# Altium schematic symbol library ThanhNT.SchLib: 223 symbols (part 1 of 3)
Pins are listed as number, name and electrical type; pins without a type are passive.

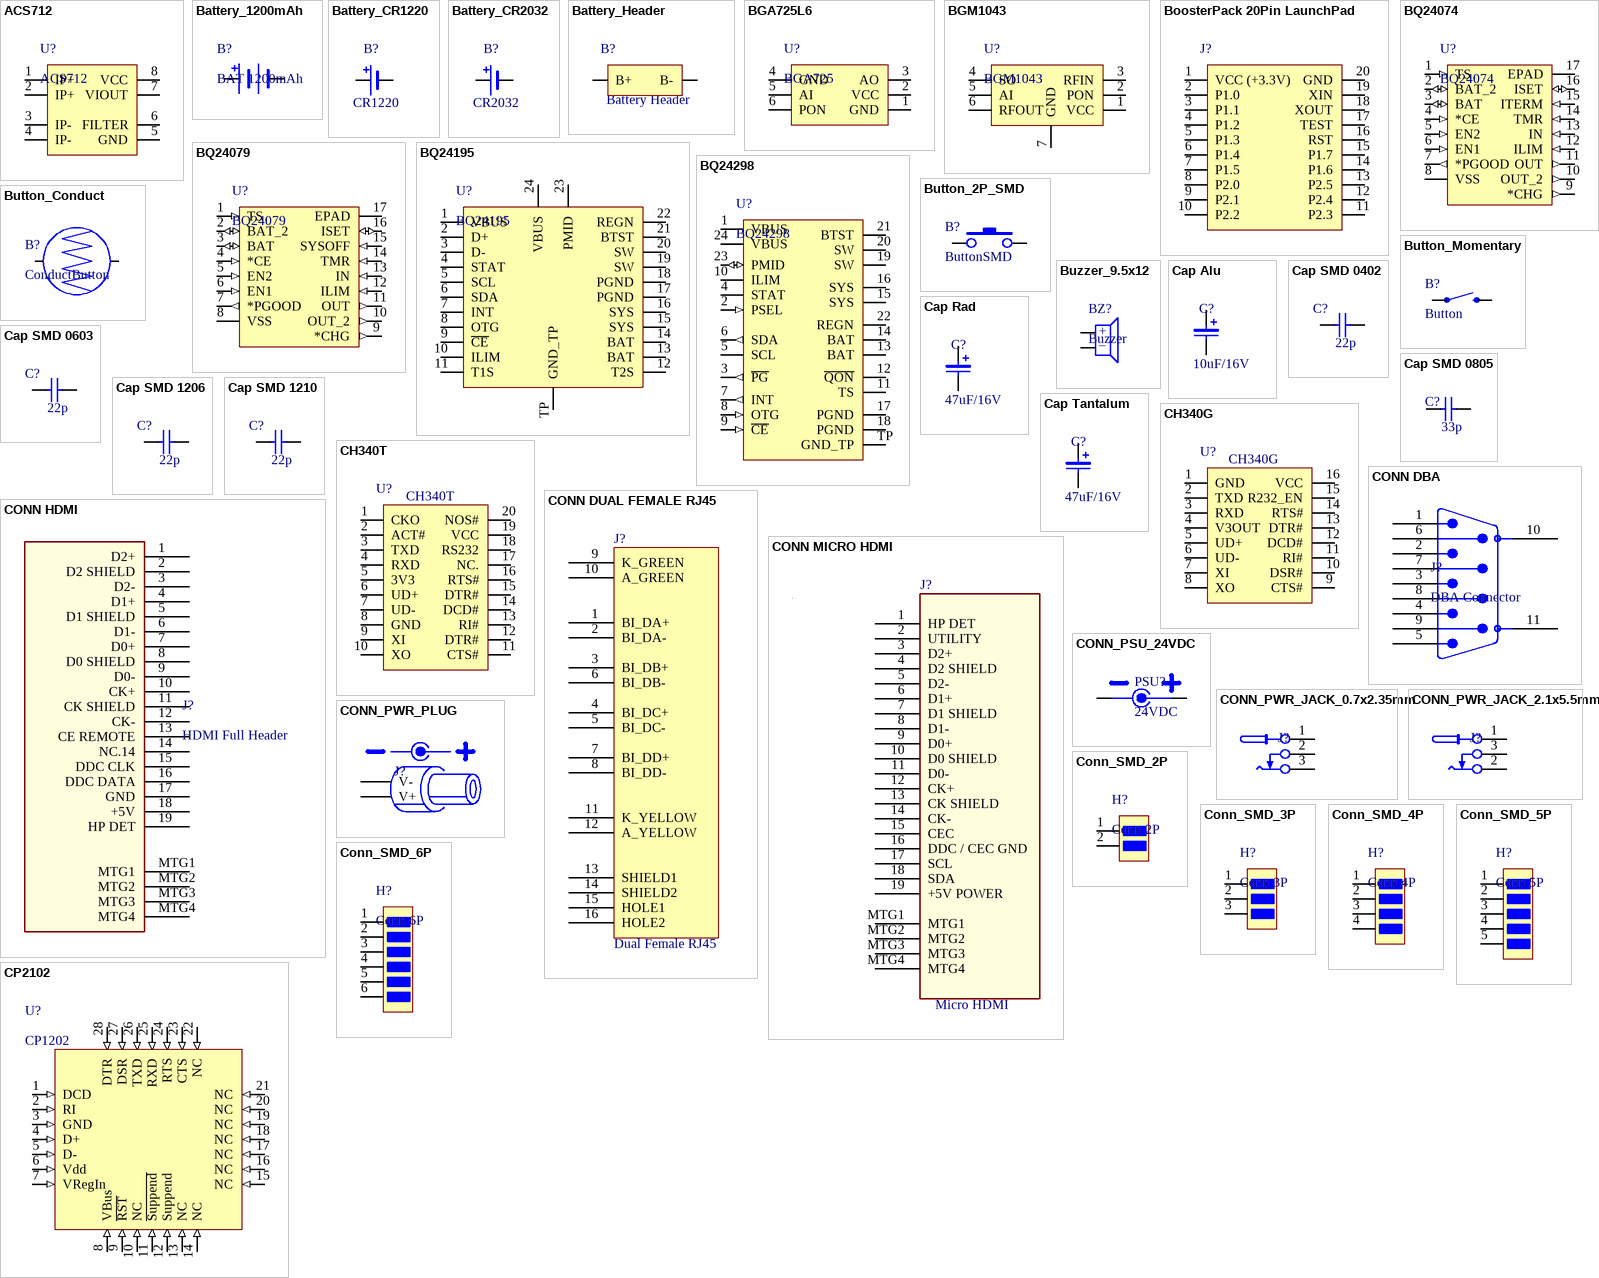
[diagram p0: symbols ACS712 to CP2102]

## ACS712
designator U?
Current Sensor
footprint SOIC127P600X175-8AN (SOIC, 8-Leads, Body 4.9x3.9mm, Pitch 1.27mm, IPC Medium Density)
pins: 1 IP+, 2 IP+, 3 IP-, 4 IP-, 5 GND, 6 FILTER, 7 VIOUT, 8 VCC

## Battery_1200mAh
designator B?, comment BAT 1200mAh
pins: 1, 2

## Battery_CR1220
designator B?, comment CR1220
Value: CR1220
footprint BAT_CR1220_SMD
pins: 1, 2

## Battery_CR2032
designator B?, comment CR2032
Value: CR2032
footprint BAT_CR2032_DIP_H
footprint BAT_CR2032_DIP_V
pins: 1, 2

## Battery_Header
designator B?, comment Battery Header
Value: Battery Header
footprint CONN_PAD_SMD_2P (SMT Battery jumper pads)
pins: 1 B+, 2 B-

## BGA725L6
designator U?, comment BGA725
GPS Signal Amplifier; Manufacturer 1: Infineon Technologies; Manufacturer Part Number 1: BGA 725L6 E6327; Frequency: 1.55GHz ~ 1.615GHz; P1dB: -16dBm; Gain: 20dB; Noise Figure: 0.65dB; RF Type: GPS/GNSS; Voltage - Supply: 1.5 V ~ 3.6 V; Current - Supply: 3.6mA; Description 1: IC AMP MMIC RF LNA 20DB TSLP-6; RoHS: RoHS Compliant; Category: RF/IF and RFID; Packaging: Cut Tape (CT); Part Status: Active; Test Frequency: -; Package / Case: 6-XFDFN; Supplier Device Package: TSLP-6-2; ComponentLink1URL: http://www.infineon.com/dgdl/BGA725L6_V2+0.pdf?folderId=db3a30431f848401011fcbf2ab4c04c4&fileId=db3a30433784a0400137ef9a4d341f23; ComponentLink1Description: http://www.infineon.com/dgdl/BGA725L6_V2+0.pdf?folderId=db3a30431f848401011fcbf2ab4c04c4&fileId=db3a30433784a0400137ef9a4d341f23; Supplier 1: Digi-Key; Stock 1: 25101; Pricing 1: 1=0.89, 10=0.791, 25=0.7144, 100=0.6251, 250=0.54856, 500=0.48478, 1000=0.38273, 5000=0.33935 (USD); Supplier Part Number 1: BGA 725L6 E6327CT-ND
footprint XFDFN-6 (TSLP, 6-Leads, Body 0.7x1.1 mm)
pins: 1 GND, 2 VCC, 3 AO, 4 GND, 5 AI, 6 PON

## BGM1043
designator U?
GPS Signal Amplifier; Manufacturer 1: Infineon Technologies; Manufacturer Part Number 1: BGM1043N7E6327XUSA1; Frequency: 1575.42MHz, 1598.06MHz ~ 1605.38MHz; P1dB: -6dBm; Gain: 14.6dB, 15.1dB; Noise Figure: 1.5dB; RF Type: Galileo, GLONASS, GPS; Voltage - Supply: 1.5 V ~ 3.6 V; Current - Supply: 4mA; Description 1: IC AMP SI-MMIC; RoHS: RoHS Compliant; Category: RF/IF and RFID; Packaging: Cut Tape (CT); Part Status: Last Time Buy; Test Frequency: 1575.42MHz, 1598.06MHz ~ 1605.38MHz; Package / Case: 6-WFDFN Exposed Pad; Supplier Device Package: TSNP-7-10; ComponentLink1URL: http://www.infineon.com/dgdl/bgm1043n7.pdf?folderId=db3a30431f848401011fcbf2ab4c04c4&fileId=db3a304336415dec01365e4465443c72; ComponentLink1Description: http://www.infineon.com/dgdl/bgm1043n7.pdf?folderId=db3a30431f848401011fcbf2ab4c04c4&fileId=db3a304336415dec01365e4465443c72; Supplier 1: Digi-Key; Stock 1: 0; Pricing 1: 1=1.93, 10=1.747, 25=1.56, 100=1.404, 250=1.24804, 500=1.09204, 1000=0.90483 (USD); Supplier Part Number 1: BGM1043N7E6327XUSA1CT-ND
footprint WFDFN-6 (SON, 6-Leads, Body 2.3x1.7mm, Pitch 0.54mm)
pins: 1 VCC, 2 PON, 3 RFIN, 4 SO, 5 AI, 6 RFOUT, 7 GND

## BoosterPack 20Pin LaunchPad
designator J?
footprint BoosterPack_TI_LaunchPad (20PIN_LP)
pins: 1 VCC (+3.3V) (power), 2 P1.0, 3 P1.1, 4 P1.2, 5 P1.3, 6 P1.4, 7 P1.5, 8 P2.0, 9 P2.1, 10 P2.2, 11 P2.3, 12 P2.4, 13 P2.5, 14 P1.6, 15 P1.7, 16 RST, 17 TEST, 18 XOUT, 19 XIN, 20 GND

## BQ24074
designator U?
USB-Friendly Li-Ion Battery Charger and Power-Path Management IC, 10.5V OVP; Manufacturer 1: Texas Instruments; Manufacturer Part Number 1: BQ24074RGTT; Battery Chemistry: Lithium-Ion; Number of Cells: 1; Current - Charging: Constant - Programmable; Programmable Features: Current, Timer; Fault Protection: Over Temperature, Over Voltage, Reverse Current, Short Circuit; Charge Current - Max: 1.5A; Battery Pack Voltage: 4.2V; Voltage - Supply (Max): 10.2V; Interface: USB; Description 1: IC LI-ION BATTER CHARGER 16-QFN; RoHS: RoHS Compliant; Category: Integrated Circuits (ICs); Packaging: Digi-Reel®; Part Status: Active; Operating Temperature: -40°C ~ 125°C (TJ); Package / Case: 16-VFQFN Exposed Pad; Supplier Device Package: 16-QFN (3x3); ComponentLink1URL: http://www.ti.com/lit/ds/symlink/bq24072.pdf; ComponentLink1Description: http://www.ti.com/lit/ds/symlink/bq24072.pdf; Supplier 1: Digi-Key; Stock 1: 9465; Pricing 1: 1=2.68, 10=2.402, 100=1.9272 (USD); ComponentLink2URL: http://www.ti.com/lit/ds/symlink/bq24074.pdf; ComponentLink2Description: http://www.ti.com/lit/ds/symlink/bq24074.pdf; Supplier Part Number 1: 296-23798-1-ND
footprint RGT16_1P7X1P7
pins: 1 TS (in), 2 BAT_2 (io), 3 BAT (io), 4 *CE (in), 5 EN2 (in), 6 EN1 (in), 7 *PGOOD (out), 8 VSS (power), 9 *CHG (out), 10 OUT_2 (out), 11 OUT (out), 12 ILIM (in), 13 IN (in), 14 TMR (in), 15 ITERM (in), 16 ISET (io), 17 EPAD (power)

## BQ24079
designator U?
1.2A USB-Friendly Li-Ion Battery Charger and Power-Path Management IC with 4.1 VBAT; Manufacturer 1: Texas Instruments; Manufacturer Part Number 1: BQ24079RGTR; Description 1: IC LI-ION CHARGE/PWR MGMT 16QFN; Battery Chemistry: Lithium-Ion; Number of Cells: 1; Current - Charging: Constant - Programmable; Programmable Features: Current, Timer; Fault Protection: Over Temperature, Over Voltage, Reverse Current, Short Circuit; Charge Current - Max: 1.5A; Battery Pack Voltage: 4.1V; Voltage - Supply (Max): 6.4V; Interface: USB; Supplier 1: Digi-Key; RoHS: RoHS Compliant; Category: Integrated Circuits (ICs); Stock 1: 3378; Pricing 1: 1=2.33, 10=2.088, 100=1.6754, 500=1.377, 1000=0.95625 (USD); Packaging: Cut Tape (CT); Part Status: Active; Operating Temperature: -40°C ~ 125°C (TJ); Package / Case: 16-VFQFN Exposed Pad; Supplier Device Package: 16-QFN (3x3); ComponentLink1URL: http://www.ti.com/lit/ds/symlink/bq24079.pdf; ComponentLink1Description: http://www.ti.com/lit/ds/symlink/bq24079.pdf; Supplier Part Number 1: 296-24815-1-ND
footprint RGT16_1P7X1P7
pins: 1 TS (in), 2 BAT_2 (io), 3 BAT (io), 4 *CE (in), 5 EN2 (in), 6 EN1 (in), 7 *PGOOD (out), 8 VSS (power), 9 *CHG (out), 10 OUT_2 (out), 11 OUT (out), 12 ILIM (in), 13 IN (in), 14 TMR (in), 15 SYSOFF (in), 16 ISET (io), 17 EPAD (power)

## BQ24195
designator U?
Controlled 2.5-A /4.5-A Single Cell USB/Adapter Charger  with 5.1 V at 1 A /5.1 V at 2.1 A Synchronous Boost Operation; Manufacturer 1: Texas Instruments; Manufacturer Part Number 1: BQ24195RGER; Description 1: IC CHRG MGMT LI-ION/POL 24VQFN; Battery Chemistry: Lithium-Ion/Polymer; Number of Cells: 1; Current - Charging: Constant - Programmable; Fault Protection: Over Current, Over Temperature, Over Voltage; Charge Current - Max: 4.5A; Battery Pack Voltage: 4.2V; Voltage - Supply (Max): 17V; Interface: I²C; Supplier 1: Digi-Key; RoHS: RoHS Compliant; Category: Integrated Circuits (ICs); Stock 1: 2958; Pricing 1: 1=5.53, 10=4.961, 100=4.0703, 500=3.46276, 1000=2.53125 (USD); Packaging: Cut Tape (CT); Part Status: Active; Programmable Features: -; Operating Temperature: -40°C ~ 85°C (TA); Package / Case: 24-VFQFN Exposed Pad; Supplier Device Package: 24-VQFN (4x4); ComponentLink1URL: http://www.ti.com/lit/ds/symlink/bq24195.pdf; ComponentLink1Description: http://www.ti.com/lit/ds/symlink/bq24195.pdf; Supplier Part Number 1: 296-43583-1-ND
footprint QFN50P400X400X80-24N
pins: 1 VBUS, 2 D+, 3 D-, 4 STAT, 5 SCL, 6 SDA, 7 INT, 8 OTG, 9 ~{CE}, 10 ILIM, 11 T1S, 12 T2S, 13 BAT, 14 BAT, 15 SYS, 16 SYS, 17 PGND, 18 PGND, 19 SW, 20 SW, 21 BTST, 22 REGN, 23 PMID, 24 VBUS, TP GND_TP

## BQ24298
designator U?
1.2A USB-Friendly Li-Ion Battery Charger and Power-Path Management IC with 4.1 VBAT; Manufacturer 1: Texas Instruments; Manufacturer Part Number 1: BQ24298RTWT; Description 1: IC BATT CHARGER USB 3A 24VQFN; Battery Chemistry: Lithium-Ion/Polymer; Number of Cells: 1; Current - Charging: Constant - Programmable; Fault Protection: Over Current, Over Temperature, Over Voltage; Charge Current - Max: 3A; Battery Pack Voltage: 4.2V; Voltage - Supply (Max): 6.2V; Interface: I²C; Supplier 1: Digi-Key; RoHS: RoHS Compliant; Category: Integrated Circuits (ICs); Stock 1: 342; Pricing 1: 1=4.95, 10=4.439, 100=3.6421 (USD); Packaging: Cut Tape (CT); Part Status: Active; Programmable Features: -; Operating Temperature: -40°C ~ 85°C (TA); Package / Case: 24-WFQFN Exposed Pad; Supplier Device Package: 24-WQFN (4x4); ComponentLink1URL: http://www.ti.com/lit/ds/symlink/bq24298.pdf; ComponentLink1Description: http://www.ti.com/lit/ds/symlink/bq24298.pdf; Supplier Part Number 1: 296-42099-1-ND
footprint QFN50P400X400X80-24N
pins: 1 VBUS (power), 2 PSEL (in), 3 ~{PG} (out), 4 STAT, 5 SCL (power), 6 SDA (out), 7 INT (out), 8 OTG (in), 9 ~{CE} (in), 10 ILIM, 11 TS, 12 ~{QON} (power), 13 BAT, 14 BAT, 15 SYS, 16 SYS, 17 PGND (power), 18 PGND (power), 19 SW, 20 SW, 21 BTST, 22 REGN, 23 PMID (io), 24 VBUS (power), TP GND_TP (power)

## Button_2P_SMD
designator B?, comment ButtonSMD
footprint TACTILE-SWITCH-1101NE
footprint TACT-SWITCH_2P_SMD
pins: 1, 2

## Button_Conduct
designator B?, comment ConductButton
footprint BUTTON-CONDUCTIVE
footprint BUTTON-CONDUCTIVE-0.1
pins: 1, 2

## Button_Momentary
designator B?, comment Button
footprint TACTILE-PTH
pins: 1, 2

## Buzzer_9.5x12
designator BZ?, comment Buzzer
Buzzer 9.5x12mm
footprint BUZZER_MT03-H1BHP
pins: 1, 2
text: +; _

## Cap Alu
designator C?, comment 10uF/16V
Aluminum Capacitor SMD; Value: 10uF/16V
footprint CAP_ELEC_3 (Aluminum Cap SMD (Code A: 3mm))
footprint CAP_ELEC_4 (Aluminum Cap SMD (Code B: 4mm))
footprint CAP_ELEC_5 (Aluminum Cap SMD (Code C: 5mm))
footprint CAP_ELEC_6.3 (Aluminum Cap SMD (Code D: 6.3mm))
footprint CAP_ELEC_8x6.2 (Aluminum Cap SMD (Code E: 8mm x 6.2mm))
footprint CAP_ELEC_8x10.2 (Aluminum Cap SMD (Code E: 8mm x 10.2mm))
footprint CAP_ELEC_10x10.2 (Aluminum Cap SMD (Code F: 10mm x 10.2mm))
footprint CAP_ELEC_12.5 (Aluminum Cap SMD (Code G: 12.5mm))
footprint CAP_ELEC_16 (Aluminum Cap SMD (Code J: 16mm))
footprint CAP_ELEC_18 (Aluminum Cap SMD (Code K: 18mm))
pins: A, K

## Cap Rad
designator C?, comment 47uF/16V
Radial Capacitor; Value: 47uF/16V
footprint CAP_ELEC_TH_4 (CAP Radial 4mm)
footprint CAP_ELEC_TH_5 (Radial Capacitor (Code B: 5mm))
footprint CAP_ELEC_TH_6.3 (Radial Capacitor (Code C: 6.3mm))
footprint CAP_ELEC_TH_8_11.5 (Radial Capacitor (Code E: 8mm))
footprint CAP_ELEC_TH_8_12 (Radial Capacitor (Code E: 8mm))
footprint CAP_ELEC_TH_8_16 (Radial Capacitor (Code E: 8mm))
footprint CAP_ELEC_TH_10_13.5 (Radial Capacitor (Code F: 10mm))
footprint CAP_ELEC_TH_10_16 (Radial Capacitor (Code F: 10mm))
footprint CAP_ELEC_TH_10_20 (Radial Capacitor (Code F: 10mm))
footprint CAP_ELEC_TH_12.5_20 (CAP Radial 12.5mm)
footprint CAP_ELEC_TH_12.5_25 (CAP Radial 12.5mm)
footprint CAP_ELEC_TH_16 (CAP Radial 16mm)
footprint CAP_ELEC_TH_18_26 (CAP Radial 18mm)
footprint CAP_ELEC_TH_18_36 (CAP Radial 18mm)
footprint CAP_ELEC_TH_SOP2_5 (C10uF)
footprint CAP_ELEC_TH_SOP2_8 (C100uF)
pins: A, K

## Cap SMD 0402
designator C?, comment 22p
Capacitor SMD; Value: 22p
footprint CAPC_0402_1005X55N (Chip Capacitor, Body 1.0x0.5mm, EIA 0402, IPC Medium Density)
pins: 1, 2

## Cap SMD 0603
designator C?, comment 22p
Capacitor SMD; Value: 22p
footprint CAPC_0603_1608X80N (Chip Capacitor, Body 1.6x0.8mm, EIA 0603, IPC Medium Density)
pins: 1, 2

## Cap SMD 0805
designator C?, comment 33p
Capacitor SMD; Published: 8-Jun-2000; LatestRevisionDate: 17-Jul-2002; LatestRevisionNote: Re-released for DXP Platform.; PackageReference: RAD-0.3; Publisher: Altium Limited; Value: 33p
footprint CAPC_0805_2012X80N (Chip Capacitor, Body 2.0x1.2mm, EIA 0805, IPC Medium Density)
footprint CAPC_0805_2012X125N (Chip Capacitor, Body 2.0x1.2mm, EIA 0805, IPC Medium Density)
pins: 1, 2

## Cap SMD 1206
designator C?, comment 22p
Capacitor SMD; Value: 22p
footprint CAPC_1206_3216X80N (Chip Capacitor, Body 3.2x1.6mm, 0.8mm H, EIA 1206, IPC Medium Density)
footprint CAPC_1206_3216X100N (Chip Capacitor, Body 3.2x1.6mm, 1.0mm H, EIA 1206, IPC Medium Density)
footprint CAPC_1206_3216X125N (Chip Capacitor, Body 3.2x1.6mm, 1.25mm H, EIA 1206, IPC Medium Density)
footprint CAPC_1206_3216X160N (Chip Capacitor, Body 3.2x1.6mm, 1.6mm H, EIA 1206, IPC Medium Density)
pins: 1, 2

## Cap SMD 1210
designator C?, comment 22p
Capacitor SMD; Value: 22p
footprint CAPC_1210_3225X80N (Chip Capacitor, Body 3.2x2.5mm, EIA 1210, IPC Medium Density)
footprint CAPC_1210_3225X100N (Chip Capacitor, Body 3.2x2.5mm, EIA 1210, IPC Medium Density)
footprint CAPC_1210_3225X125N (Chip Capacitor, Body 3.2x2.5mm, EIA 1210, IPC Medium Density)
footprint CAPC_1210_3225X160N (Chip Capacitor, Body 3.2x2.5mm, EIA 1210, IPC Medium Density)
footprint CAPC_1210_3225X210N (Chip Capacitor, Body 3.2x2.5mm, EIA 1210, IPC Medium Density)
footprint CAPC_1210_3225X190N (Chip Capacitor, Body 3.2x2.5mm, EIA 1210, IPC Medium Density)
footprint CAPC_1210_3225X250N (Chip Capacitor, Body 3.2x2.5mm, EIA 1210, IPC Medium Density)
pins: 1, 2

## Cap Tantalum
designator C?, comment 47uF/16V
Tantalium Capacitor; Value: 47uF/16V
footprint CAPMP_2012_CASE_P (Tatalum Capacitor SMD (2012_0805), Molded body capacitor)
footprint CAPMP_2012_CASE_R (Tatalum Capacitor SMD (2012_0805), Molded body capacitor)
footprint CAPMP_3216_CASE_A (Tatalum Capacitor SMD (3216_1206), Molded body capacitor)
footprint CAPMP_3528_CASE_B (Tatalum Capacitor SMD (3528_1411), Molded body capacitor)
footprint CAPMP_5846_CASE_D1 (Tatalum Capacitor SMD (5846_2318), Molded body capacitor)
footprint CAPMP_6032_CASE_C (Tatalum Capacitor SMD (6032_2412), Molded body capacitor)
footprint CAPMP_7260_CASE_E (Tatalum Capacitor SMD (7260_2824), Molded body capacitor)
footprint CAPMP_7343_CASE_D (Tatalum Capacitor SMD (7343_2916), Molded body capacitor)
pins: A, K

## CH340G
designator U?
CH340G (USB - UART); Part_Name: CH340G
footprint SOIC127P600X175-16AN (SOIC, 1.27mm pitch, 16 pin, Body 9.9x3.90mm)
pins: 1 GND, 2 TXD, 3 RXD, 4 V3OUT, 5 UD+, 6 UD-, 7 XI, 8 XO, 9 CTS#, 10 DSR#, 11 RI#, 12 DCD#, 13 DTR#, 14 RTS#, 15 R232_EN, 16 VCC

## CH340T
designator U?
CH340T (USB-UART); Part_Name: CH340T
footprint SSOP-20N-P7200 (SOP, 20-Leads, Body 7.20x5.50mm, Pitch 0.65mm, IPC Medium Density)
pins: 1 CKO, 2 ACT#, 3 TXD, 4 RXD, 5 3V3, 6 UD+, 7 UD-, 8 GND, 9 XI, 10 XO, 11 CTS#, 12 DTR#, 13 RI#, 14 DCD#, 15 DTR#, 16 RTS#, 17 NC., 18 RS232, 19 VCC, 20 NOS#

## CONN DBA
designator J?, comment DBA Connector
CONN D-SUB PLUG R/A 9POS GOLD/FL
footprint DBA9_MALE_RA
pins: 1, 2, 3, 4, 5, 6 14, 7 15, 8 16, 9 17, 10 SHIELD, 11 SHIELD

## CONN DUAL FEMALE RJ45
designator J?, comment Dual Female RJ45
CONN MOD JACK 8POS R/A G-Y PCB; Manufacturer: Tyco; Manufacturer Part Number: 2-406549-1; .Checked PCB: used; Number of Positions: 8p8c (RJ45, Ethernet); Value: 2-406549-1; Number of Ports: 1; Shielding: Shielded, EMI Finger; Ratings: Cat5; LED Color: Yellow - Green; Tab Direction: Up; .Checked SCH: used; Category: Connectors, Interconnects; Connector Type: Jack; Price 1k [$]: 1.73278; Supplier: Digikey; Supplier Part Number: A97715-ND; Supplier 1: Digi-Key; Supplier Part Number 1: A97715-ND; RoHS: RoHS Compliant; Stock 1: 9021; Pricing 1: 1=3.42 (USD); Number of Positions/Contacts: 8p8c (RJ45, Ethernet); Number of Rows: 1; Mounting Type: Through Hole; Orientation: 90° Angle (Right); Termination: Solder; Features: Board Lock; Packaging: Tray; Housing Material: Thermoplastic; Contact Material: Phosphor Bronze; Contact Finish: Gold; Operating Temperature: -40°C ~ 85°C; ComponentLink1URL: http://documents.tycoelectronics.com/commerce/DocumentDelivery/DDEController?Action=srchrtrv&DocNm=406549&DocType=CD&DocLang=EN; ComponentLink1Description: http://documents.tycoelectronics.com/commerce/DocumentDelivery/DDEController?Action=srchrtrv&DocNm=406549&DocType=CD&DocLang=EN
footprint RJ45_LED_2
pins: 1 BI_DA+, 2 BI_DA-, 3 BI_DB+, 4 BI_DC+, 5 BI_DC-, 6 BI_DB-, 7 BI_DD+, 8 BI_DD-, 9 K_GREEN, 10 A_GREEN, 11 K_YELLOW, 12 A_YELLOW, 13 SHIELD1, 14 SHIELD2, 15 HOLE1, 16 HOLE2

## CONN HDMI
designator J?, comment HDMI Full Header
footprint CONN_HDMI
pins: 1 D2+, 2 D2 SHIELD, 3 D2-, 4 D1+, 5 D1 SHIELD, 6 D1-, 7 D0+, 8 D0 SHIELD, 9 D0-, 10 CK+, 11 CK SHIELD, 12 CK-, 13 CE REMOTE, 14 NC.14, 15 DDC CLK, 16 DDC DATA, 17 GND, 18 +5V, 19 HP DET, MTG1, MTG2, MTG3, MTG4

## CONN MICRO HDMI
designator J?, comment Micro HDMI
CONN RCPT HDMI MICRO TYPE-D R/A; Manufacturer: Molex Inc; Manufacturer Part Number: 0467651001; Connector Type: HDMI - Micro; Number of Contacts: 19; Gender: Receptacle; .Creator: MM; .Checked PCB: MM, paper model not checked; Supplier 1: Digi-Key; RoHS: RoHS Compliant; Category: Connectors, Interconnects; Stock 1: 11830; Pricing 1: 1=2.66, 10=2.414, 25=2.2664, 50=2.1678, 100=2.0693, 250=1.87224, 500=1.72442 (USD); Packaging: Cut Tape (CT); Specifications: -; Mounting Type: Surface Mount, Right Angle, Horizontal; Features: Board Guide; Ingress Protection: -; ComponentLink1URL: http://www.molex.com/pdm_docs/sd/467651001_sd.pdf; ComponentLink1Description: http://www.molex.com/pdm_docs/sd/467651001_sd.pdf; Supplier Part Number 1: WM1282CT-ND; .Checked SCH: MM
footprint CONN_MICRO_HDMI
pins: 1 HP DET, 2 UTILITY, 3 D2+, 4 D2 SHIELD, 5 D2-, 6 D1+, 7 D1 SHIELD, 8 D1-, 9 D0+, 10 D0 SHIELD, 11 D0-, 12 CK+, 13 CK SHIELD, 14 CK-, 15 CEC, 16 DDC / CEC GND, 17 SCL, 18 SDA, 19 +5V POWER, MTG1, MTG2, MTG3, MTG4

## CONN_PSU_24VDC
designator PSU?, comment 24VDC
Power Supply 24VDC 2.5A
pins: 1, 2

## CONN_PWR_JACK_0.7x2.35mm
designator J?  (value not drawn)
footprint CONN_PWR_JACK_0.7x2.35mm (Power Connector, 0.7mm ID, 2.35mm OD)
pins: 1 POS, 2 NC, 3 NEG

## CONN_PWR_JACK_2.1x5.5mm
designator J?  (value not drawn)
footprint CONN_PWR_JACK_2.1x5.5mm (Power Connector, 2.1mm ID, 5.5mm OD)
footprint CONN_PWR_JACK_2.1x5.5mm_2 (Jac DC input)
pins: 1, 2, 3

## CONN_PWR_PLUG
designator J?  (value not drawn)
footprint CONN_PAD_SMD_2P (SMT Battery jumper pads)
pins: 1 V-, 2 V+

## Conn_SMD_2P
designator H?, comment Conn 2P
footprint CONN_PAD_SMD_2P (SMT Battery jumper pads)
pins: 1 In_1, 2 In_2

## Conn_SMD_3P
designator H?, comment Conn 3P
footprint CONN_PAD_SMD_3P (SMT Battery jumper pads)
pins: 1 In_1, 2 In_2, 3 In_3

## Conn_SMD_4P
designator H?, comment Conn 4P
footprint CONN_PAD_SMD_4P (SMT Battery jumper pads)
pins: 1 In_1, 2 In_2, 3 In_3, 4 In_4

## Conn_SMD_5P
designator H?, comment Conn 5P
footprint CONN_PAD_SMD_5P (SMT Battery jumper pads)
pins: 1 In_1, 2 In_2, 3 In_3, 4 In_4, 5 In_5

## Conn_SMD_6P
designator H?, comment Conn 6P
footprint CONN_PAD_SMD_6P (SMT Battery jumper pads)
pins: 1 In_1, 2 In_2, 3 In_3, 4 In_4, 5 In_5, 6 In_6

## CP2102
designator U?, comment CP1202
footprint QFN50P500X500X80-29N (QFN, 28-Leads, Body 5.00x5.00mm, Pitch 0.50mm, Thermal Pad 3.15x3.15mm, IPC Medium Density)
pins: 1 DCD (in), 2 RI (in), 3 GND (in), 4 D+ (in), 5 D- (in), 6 Vdd (in), 7 VRegIn (in), 8 VBus (in), 9 ~{RST} (in), 10 NC (in), 11 ~{Suppend} (in), 12 Suppend (in), 13 NC (in), 14 NC (in), 15 NC (in), 16 NC (in), 17 NC (in), 18 NC (in), 19 NC (in), 20 NC (in), 21 NC (in), 22 NC (in), 23 CTS (in), 24 RTS (in), 25 RXD (in), 26 TXD (in), 27 DSR (in), 28 DTR (in)

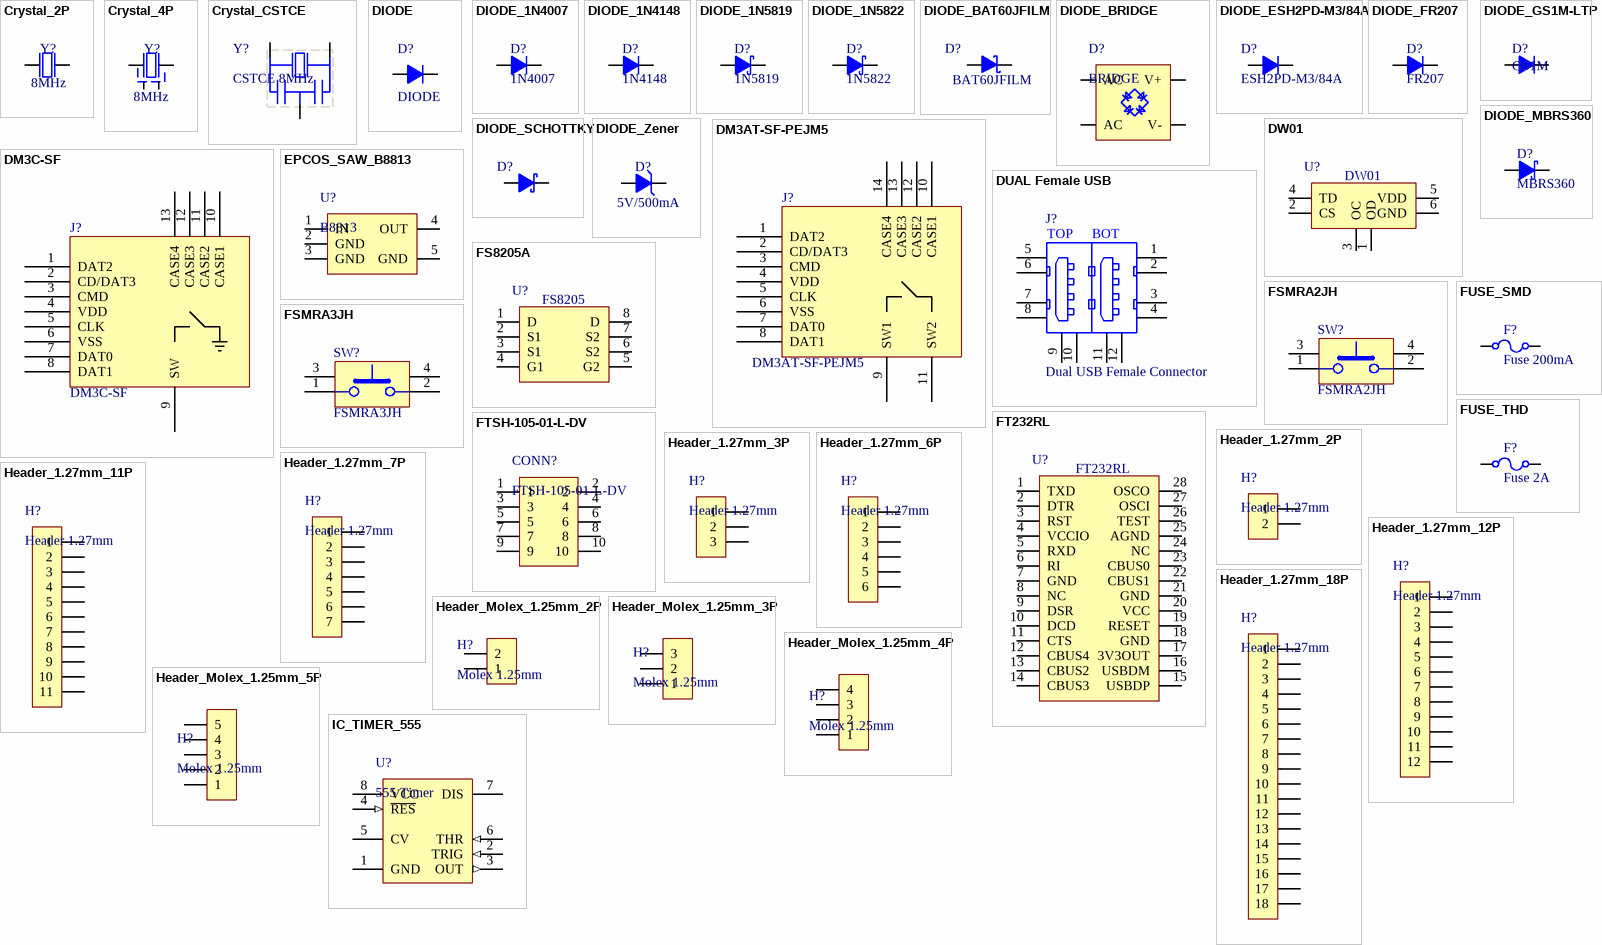
[diagram p1: symbols Crystal_2P to IC_TIMER_555]

## Crystal_2P
designator Y?, comment 8MHz
Value: 8MHz
footprint Crystal_2HOLE_49U (Footpin for Crystal 2 pin)
footprint CRYSTAL_2HOLE_SMALL (Connector; Header; 2 Position)
footprint CRYSTAL_2Hole_SMD_49US
footprint CRYSTAL_CMR309T_3x8 (SMD Crystal CMR309T package (3x8mm))
footprint CRYSTAL_HC49-US-SM (SMD Crystal HC49/US-SM package)
footprint CRYSTAL_SMD5032_2P
footprint CRYSTAL_SMD6235_2P
footprint CRYSTAL_SMD_2P
footprint CRYSTAL_CMR200T_2x6 (SMD Crystal CMR200T package (2x6mm))
footprint CRYSTAL_FC135_3215 (3.20mm x 1.50mm)
pins: 1, 2

## Crystal_4P
designator Y?, comment 8MHz
Value: 8MHz
footprint CRYSTAL_4-LCC (SMD Crystal 4-lead leadless package)
footprint CRYSTAL_NX2520SA (SMD Crystal 4-lead leadless package)
footprint CRYSTAL_SMD5032_4P
footprint CRYSTAL_SMD6035_4P
footprint CRYSTAL_ABM3B
pins: 1, 2, 3, 4

## Crystal_CSTCE
designator Y?, comment CSTCE 8MHz
(T) Crystal MHz with Capacitance Built-in
footprint CRYSTAL_CSTCE_V_3213
footprint CRYSTAL_CSTCE_G_4520
pins: 1, 2, 3

## DIODE
designator D?
footprint DO-41-30 (Diode, thru-hole, 300mil)
footprint DO-41-40 (Diode, thru-hole, 400mil)
footprint DO-41-50 (Diode, thru-hole, 500mil)
footprint DO-15-60 (Diode, thru-hole, 600mil)
footprint DO-15-50 (Diode, thru-hole, 500mil)
footprint DO-15-70 (Diode, thru-hole, 700mil)
pins: A, K

## DIODE_1N4007
designator D?, comment 1N4007
Diode 1000V, 1A
footprint DO-41-30 (Diode, thru-hole, 300mil)
footprint DO-214AC (JEDEC DO214 variation AC. SMA)
pins: A, K

## DIODE_1N4148
designator D?, comment 1N4148
100V 4nS 450mA
footprint SOD523F (SOD-523F; 2 Leads; Body 1.3 x 0.9 mm, (LxW))
footprint SOD323 (SOD-323; 2 Leads; Body 1.8 x 1.35 mm, (LxW))
footprint SOD80, LL-34 (Diode, MiniMELF)
footprint SOD80_HAND (Diod SMD 1206)
footprint DO-35-20 (DO-35 Glass 4mils, 200mil)
pins: A, K

## DIODE_1N5819
designator D?, comment 1N5819
1A 40V SS14
footprint DO-214AC (JEDEC DO214 variation AC. SMA)
pins: A, K

## DIODE_1N5822
designator D?, comment 1N5822
3A 40V SS34
footprint DO-214AC (JEDEC DO214 variation AC. SMA)
pins: A, K

## DIODE_BAT60JFILM
designator D?, comment BAT60JFILM
Manufacturer 1: STMicroelectronics; Description 1: DIODE SCHOTTKY 10V 3A SOD323; Diode Type: Schottky; Voltage - DC Reverse (Vr) (Max): 10V; Current - Average Rectified (Io): 3A (DC); Voltage - Forward (Vf) (Max) @ If: 580mV @ 1A; Speed: Fast Recovery =< 500ns, > 200mA (Io); Current - Reverse Leakage @ Vr: 6µA @ 10V; Supplier 1: Digi-Key; Manufacturer Part Number 1: BAT60JFILM; RoHS: RoHS Compliant; Category: Discrete Semiconductor Products; Stock 1: 0; Pricing 1: 1=0.41, 10=0.305, 100=0.1724, 500=0.11434, 1000=0.08769 (USD); Packaging: Cut Tape (CT); Part Status: Active; Reverse Recovery Time (trr): -; Capacitance @ Vr, F: -; Mounting Type: Surface Mount; Package / Case: SC-76, SOD-323; Supplier Device Package: SOD-323; Operating Temperature - Junction: 150°C (Max); ComponentLink1URL: http://www.st.com/web/en/resource/technical/document/datasheet/CD00001944.pdf; ComponentLink1Description: http://www.st.com/web/en/resource/technical/document/datasheet/CD00001944.pdf; Supplier Part Number 1: 497-3707-1-ND; Value: BAT60JFILM
footprint SOD323 (SOD-323; 2 Leads; Body 1.8 x 1.35 mm, (LxW))
pins: A 1, K 2

## DIODE_BRIDGE
designator D?, comment BRIDGE
footprint WOB (Bridge Rectifier; 4 Terminals; Body 9.4 x 9.4 mm (typ); Pitch 5.08 mm)
footprint WOG (Bridge Rectifier; 4 Terminals; Body 9.4 x 9.4 mm (typ); Pitch 5.08 mm)
footprint GBU
footprint KBL (BRIDGE RECTIFIERS)
footprint KBP (BRIDGE RECTIFIERS)
footprint KBU (BRIDGE RECTIFIERS)
footprint DB-S (Bridge Diode Rectron (DB101s-107s))
pins: 1 V+, 2 AC, 3 AC, 4 V-

## DIODE_ESH2PD-M3/84A
designator D?, comment ESH2PD-M3/84A
Diode Standard 200V 2A Surface Mount DO-220AA (SMP); Manufacturer 1: Vishay Semiconductor Diodes Division; Description 1: DIODE GEN PURP 200V 2A DO220AA; Voltage - Forward (Vf) (Max) @ If: 980mV @ 2A; Speed: Fast Recovery =< 500ns, > 200mA (Io); Reverse Recovery Time (trr): 25ns; Current - Reverse Leakage @ Vr: 1µA @ 200V; Capacitance @ Vr, F: 25pF @ 4V, 1MHz; Supplier 1: Digi-Key; Manufacturer Part Number 1: ESH2PD-M3/84A; RoHS: RoHS Compliant; Category: Discrete Semiconductor Products; Stock 1: 3337; Pricing 1: 1=0.46, 10=0.394, 25=0.3672, 100=0.2939, 250=0.27288, 500=0.23092, 1000=0.17843 (USD); Packaging: Cut Tape (CT); Part Status: Active; Diode Type: Standard; Voltage - DC Reverse (Vr) (Max): 200V; Current - Average Rectified (Io): 2A; Mounting Type: Surface Mount; Package / Case: DO-220AA; Supplier Device Package: DO-220AA (SMP); Operating Temperature - Junction: -55°C ~ 175°C; ComponentLink1URL: http://www.vishay.com/docs/89016/esh2pb.pdf; ComponentLink1Description: http://www.vishay.com/docs/89016/esh2pb.pdf; Supplier Part Number 1: ESH2PD-M3/84AGICT-ND
footprint DO-220AA
pins: A, K

## DIODE_FR207
designator D?, comment FR207
Standard Power Diode, Single, 1 kV, 2 A, 1.2 V, 60 A, 150 °C
footprint DO-214AA (JEDEC DO214 variation AA. SMB)
pins: A, K

## DIODE_GS1M-LTP
designator D?, comment GS1M
Rectifiers 1000V,1A; Manufacturer: Micro Commercial Components (MCC); Manufacturer Part Number: GS1M-LTP; Manufacturer 1: Micro Commercial Co; Max Surge Current: 30 A; Reverse Current IR: 10 uA; Description 1: DIODE GEN PURP 1KV 1A DO214AC; Diode Type: Standard; Voltage - DC Reverse (Vr) (Max): 1000V (1kV); Voltage - Forward (Vf) (Max) @ If: 1V @ 1A; Speed: Standard Recovery >500ns, > 200mA (Io); Current - Reverse Leakage @ Vr: 10µA @ 1000V; Capacitance @ Vr, F: 15pF @ 4V, 1MHz; RoHS: RoHS Compliant; Category: Rectifiers; Package/Case: DO-214AC; Packaging: Reel; Product: Standard Recovery Rectifiers; Series: GS1M; Forward Continuous Current: 1 A; Mounting Style: SMD/SMT; Reverse Voltage: 1000 V; Maximum Operating Temperature: + 150 C; RoHS - Mouser: Y; Minimum Order Quantity: 1; Reeling: True; ComponentLink1URL: http://www.mouser.com/ds/2/258/GS1A-GS1M(HSMA)-8668.pdf; ComponentLink1Description: http://www.mouser.com/ds/2/258/GS1A-GS1M(HSMA)-8668.pdf; Supplier 1: Digi-Key; Manufacturer Part Number 1: GS1M-LTP; Stock 1: 24078; Pricing 1: 1=0.28, 10=0.258, 25=0.1856, 100=0.1442, 250=0.09064, 500=0.07726, 1000=0.05253, 2500=0.04738 (USD); Part Status: Active; Current - Average Rectified (Io): 1A; Reverse Recovery Time (trr): -; Mounting Type: Surface Mount; Package / Case: DO-214AC, SMA; Supplier Device Package: DO-214AC (SMA); Operating Temperature - Junction: -55°C ~ 150°C; ComponentLink2URL: http://www.mccsemi.com/up_pdf/GS1A-L~GS1M-L(DO-214AC).pdf; ComponentLink2Description: http://www.mccsemi.com/up_pdf/GS1A-L~GS1M-L(DO-214AC).pdf; Supplier Part Number 1: GS1M-LTPMSDKR-ND
footprint DO-214AC (JEDEC DO214 variation AC. SMA)
pins: A, K

## DIODE_MBRS360
designator D?, comment MBRS360
3A SMB; Manufacturer 1: ON Semiconductor; Manufacturer Part Number 1: MBRS360BT3G; Description 1: DIODE SCHOTTKY 60V 3A SMB; Diode Type: Schottky; Voltage - DC Reverse (Vr) (Max): 60V; Voltage - Forward (Vf) (Max) @ If: 630mV @ 3A; Speed: Fast Recovery =< 500ns, > 200mA (Io); Current - Reverse Leakage @ Vr: 30µA @ 60V; Supplier 1: Digi-Key; RoHS: RoHS Compliant; Category: Discrete Semiconductor Products; Stock 1: 18750; Pricing 1: 1=0.41, 10=0.35, 100=0.2613, 500=0.2052, 1000=0.1582 (USD); Packaging: Cut Tape (CT); Part Status: Active; Current - Average Rectified (Io): 3A; Reverse Recovery Time (trr): -; Capacitance @ Vr, F: -; Mounting Type: Surface Mount; Package / Case: DO-214AA, SMB; Supplier Device Package: SMB; Operating Temperature - Junction: -65°C ~ 175°C; ComponentLink1URL: http://www.onsemi.com/pub_link/Collateral/MBRS360T3-D.PDF; ComponentLink1Description: http://www.onsemi.com/pub_link/Collateral/MBRS360T3-D.PDF; Supplier Part Number 1: MBRS360BT3GOSCT-ND
footprint DO-214AA (JEDEC DO214 variation AA. SMB)
pins: A, K

## DIODE_SCHOTTKY
designator D?, comment SS34  (value not drawn)
Diode Schottky SMD 100V 3A SMC
footprint DO-214AA (JEDEC DO214 variation AA. SMB)
footprint DO-214AB (JEDEC DO214 variation AB. SMC)
footprint DO-214AC (JEDEC DO214 variation AC. SMA)
pins: A, K

## DIODE_Zener
designator D?, comment 5V/500mA
Value: 5V/500mA
footprint DO-214AA (JEDEC DO214 variation AA. SMB)
pins: A, K

## DM3AT-SF-PEJM5
designator J?
CONN MICRO SD R/A PUSH-PUSH SMD; Manufacturer: Hirose Electric Co Ltd; .Checked PCB: MM; Connector Type: Connector and Ejector; Card Type: Secure Digital - microSD TransFlash; Number of Positions: 10 (8 + 2); Insertion, Removal Method: Push In, Push Out; .Checked SCH: MM; Category: Connectors, Interconnects; Supplier Part Number: HR1964CT-ND; Family: Memory - PC Card Connectors; Manufacturer Part Number: DM3AT-SF-PEJM5; Price 1k [$]: 1.85200; Supplier: Digikey; Supplier 1: Digi-Key; Supplier Part Number 1: HR1964CT-ND; RoHS: RoHS Compliant; Stock 1: 7044; Pricing 1: 1=2.96, 10=2.457, 50=2.0476, 100=1.82, 250=1.5106, 500=1.365 (USD); Ejector Side: -; Mounting Type: Surface Mount, Right Angle; Features: Switch; Height Above Board: 0.066" (1.68mm); Mounting Feature: Normal, Standard - Top; Packaging: Cut Tape (CT); Contact Finish: Gold; Contact Finish Thickness: -; ComponentLink1URL: http://www.hirose.co.jp/cataloge_hp/e60900232.pdf; ComponentLink1Description: http://www.hirose.co.jp/cataloge_hp/e60900232.pdf
footprint CONN_MICRO_SD_DM3AT
pins: 1 DAT2, 2 CD/DAT3, 3 CMD, 4 VDD, 5 CLK, 6 VSS, 7 DAT0, 8 DAT1, 9 SW1, 10 CASE1, 11 SW2, 12 CASE2, 13 CASE3, 14 CASE4

## DM3C-SF
designator J?
CONN MICRO SD R/A HING TYPE SMD; Manufacturer: Hirose Electric Co Ltd; Card Type: Secure Digital - microSD™; Number of Positions: 10 (8 + 2); Connector Type: Connector and Ejector; Insertion, Removal Method: Hinged Lid; .Creator: MM; Supplier 1: Digi-Key; Manufacturer Part Number: DM3C-SF; RoHS: RoHS Compliant; Category: Connectors, Interconnects; Stock 1: 87; Pricing 1: 1=2.36, 10=1.96, 25=1.8152, 50=1.6368, 100=1.452, 250=1.2738, 500=1.1616 (USD); Packaging: Cut Tape (CT); Ejector Side: -; Mounting Type: Surface Mount, Right Angle; Features: Switch; Height Above Board: 0.072" (1.83mm); Mounting Feature: Normal, Standard - Top; Contact Finish: Gold; Contact Finish Thickness: -; ComponentLink1URL: http://www.hirose.co.jp/cataloge_hp/e60900232.pdf; ComponentLink1Description: http://www.hirose.co.jp/cataloge_hp/e60900232.pdf; Supplier Part Number 1: HR1940CT-ND; .Checked PCB: MM; .Checked SCH: MM
footprint CONN_MICRO_SD_DM3CS
pins: 1 DAT2, 2 CD/DAT3, 3 CMD, 4 VDD, 5 CLK, 6 VSS, 7 DAT0, 8 DAT1, 9 SW, 10 CASE1, 11 CASE2, 12 CASE3, 13 CASE4

## DUAL Female USB
designator J?, comment Dual USB Female Connector
CONN RCPT R/A 4OVER4POS GOLD PCB; Manufacturer: TE Connectivity; Manufacturer Part Number: 5787617-1; .Checked PCB: used; Connector Type: USB - A, Stacked; Value: 5787617-1; Number of Contacts: 8; Gender: Receptacle; Specifications: USB 2.0; .Checked SCH: used; Category: Connectors, Interconnects; Family: USB, IEEE-1394 (Firewire), DVI, HDMI; Price 1k [$]: 1.68753; Supplier: Digikey; Supplier Part Number: A31728-ND; Supplier 1: Digi-Key; Supplier Part Number 1: A31728-ND; RoHS: RoHS Compliant; Stock 1: 5401; Pricing 1: 1=3.33, 10=3.197, 25=2.9308, 50=2.7978, 100=2.6645, 250=2.33144, 500=2.26484, 1000=1.93178, 2500=1.79855 (USD); Mounting Type: Through Hole, Right Angle, Horizontal; Features: Board Lock; Packaging: Tray; Ingress Protection: -; ComponentLink1URL: http://documents.tycoelectronics.com/commerce/DocumentDelivery/DDEController?Action=srchrtrv&DocNm=5787617&DocType=CD&DocLang=EN; ComponentLink1Description: http://documents.tycoelectronics.com/commerce/DocumentDelivery/DDEController?Action=srchrtrv&DocNm=5787617&DocType=CD&DocLang=EN
footprint CONN_USB-2A_FEMALE
pins: 1 VBUS, 2 D-, 3 D+, 4 GND, 5 VBUS2, 6 D2-, 7 D2+, 8 GND, 9 SHIELD, 10 SHIELD, 11 SHIELD, 12 SHIELD
text: TOP; BOT

## DW01
designator U?
Part_Name: DW01
footprint TSOT23-6 (SOT-23-6 Thin, 6 lead)
pins: 1 OD, 2 CS, 3 OC, 4 TD, 5 VDD, 6 GND

## EPCOS_SAW_B8813
designator U?, comment B8813
FILTER SAW GPS
footprint EPCOS_SAW_B8813
pins: 1 IN, 2 GND, 3 GND, 4 OUT, 5 GND

## FS8205A
designator U?, comment FS8205
PartName: FS8205
footprint TSSOP65P640X120-8N (TSSOP, 8 Leads, Body 3.1x4.5mm (max), Pitch 0.65mm, IPC Medium Density)
pins: 1 D, 2 S1, 3 S1, 4 G1, 5 G2, 6 S2, 7 S2, 8 D

## FSMRA2JH
designator SW?
SWITCH TACTILE SPST-NO 0.05A 12V; Manufacturer: TE Connectivity; Switch Function: Off-Mom; Contact Rating @ Voltage: 0.05A @ 12VDC; Actuator Type: Standard; Actuator Height off PCB, from Pins: 3.86mm; Actuator Orientation: Side Actuated; Outline: 7.10mm x 7.00mm; Illumination: Non-Illuminated; Operating Force: 160gf; Actuator Material: Polybutylene Terephthalate (PBT); Switch Travel: 0.25mm; Mechanical Life: 100,000 Cycles; .Creator: MM; Supplier 1: Digi-Key; Manufacturer Part Number: FSMRA2JH; RoHS: RoHS Compliant; Category: Switches; Stock 1: 12215; Pricing 1: 1=0.16, 10=0.151, 25=0.146, 50=0.141, 100=0.1331, 250=0.12528, 500=0.12006, 1000=0.09135 (USD); Packaging: Bulk; Circuit: SPST-NO; Mounting Type: Through Hole, Right Angle; Termination Style: PC Pin; Illumination Voltage (Nominal): -; Illumination Type, Color: -; Ingress Protection: -; Features: -; Operating Temperature: -35°C ~ 85°C; ComponentLink1URL: http://media.digikey.com/pdf/Data%20Sheets/Tyco%20Electronics%20Alcoswitch%20PDFs/FSM%20Series.pdf; ComponentLink1Description: http://media.digikey.com/pdf/Data%20Sheets/Tyco%20Electronics%20Alcoswitch%20PDFs/FSM%20Series.pdf; Supplier Part Number 1: 450-1662-ND; .Checked PCB: MM; .Checked SCH: MM
footprint TS_FSMRA2JH
pins: 1, 2, 3 MECH1, 4 MECH2

## FSMRA3JH
designator SW?
SWITCH TACTILE SPST-NO 0.05A 12V; Manufacturer: TE Connectivity; Switch Function: Off-Mom; Contact Rating @ Voltage: 0.05A @ 12VDC; Actuator Type: Standard; Actuator Height off PCB, from Pins: 5.85mm; Actuator Orientation: Side Actuated; Outline: 7.10mm x 7.00mm; Illumination: Non-Illuminated; Operating Force: 160gf; Actuator Material: Polyamide (PA), Nylon; Switch Travel: 0.25mm; Mechanical Life: 100,000 Cycles; .Creator: MM; Supplier 1: Digi-Key; Manufacturer Part Number: FSMRA3JH; RoHS: RoHS Compliant; Category: Switches; Stock 1: 37985; Pricing 1: 1=0.15, 10=0.143, 25=0.1376, 50=0.1328, 100=0.1255, 250=0.11808, 500=0.11316, 1000=0.0861 (USD); Packaging: Bulk; Circuit: SPST-NO; Mounting Type: Through Hole, Right Angle; Termination Style: PC Pin; Illumination Voltage (Nominal): -; Illumination Type, Color: -; Ingress Protection: -; Features: -; Operating Temperature: -35°C ~ 85°C; ComponentLink1URL: http://www.te.com/commerce/DocumentDelivery/DDEController?Action=srchrtrv&DocNm=1825027&DocType=Customer+Drawing&DocLang=English; ComponentLink1Description: http://www.te.com/commerce/DocumentDelivery/DDEController?Action=srchrtrv&DocNm=1825027&DocType=Customer+Drawing&DocLang=English; Supplier Part Number 1: 450-1657-ND; .Checked PCB: MM; .Checked SCH: MM
footprint TS_FSMRA3JH
pins: 1, 2, 3 MECH1, 4 MECH2

## FT232RL
designator U?
PartName: FT232RL
footprint SSOP-28N-P770
pins: 1 TXD, 2 DTR, 3 RST, 4 VCCIO, 5 RXD, 6 RI, 7 GND, 8 NC, 9 DSR, 10 DCD, 11 CTS, 12 CBUS4, 13 CBUS2, 14 CBUS3, 15 USBDP, 16 USBDM, 17 3V3OUT, 18 GND, 19 RESET, 20 VCC, 21 GND, 22 CBUS1, 23 CBUS0, 24 NC, 25 AGND, 26 TEST, 27 OSCI, 28 OSCO

## FTSH-105-01-L-DV
designator CONN?
SAMTEC - FTSH-105-01-L-DV - MACHO, 1,27 MM, SMD, 10 VÍAS; Serie: FTSH; Espaciado, Paso: 1.27; Núm. de Filas: 2; Núm. de Contactos: 10; Género: Conector; Contacto, Terminación: Soldar; Contacto, Chapado: Oro; Contacto, Material: Fosfuro de Bronce; Sustancia Extremadamente Preocupante (SVHC): No SVHC (16-Dec-2013); Intensidad Nominal: 1.75; Método de Terminación: Soldable; Temperatura de Trabajo Máx.: 125; Temperatura de Trabajo Mín.: -55; Supplier 1: Farnell; Manufacturer: SAMTEC; Manufacturer Part Number: FTSH-105-01-L-DV; RoHS: YES; Stock 1: 5281; Pricing 1: 1=2,13, 10=1,85, 50=1,77, 100=1,69, 250=1,63, 400=1,3, 400=1,17, 4000=1,05 (EUR); Color: Black; Espaciado de Cable: 1.27; Paso de Fila: 1.27; ComponentLink1URL: http://www.farnell.com/cad/320908.pdf; ComponentLink1Description: http://www.farnell.com/cad/320908.pdf; ComponentLink2URL: http://www.farnell.com/datasheets/81359.pdf; ComponentLink2Description: http://www.farnell.com/datasheets/81359.pdf
footprint HEADER_FTSH-105-01-L-DV (FTSH-105-01-L-DV)
pins: 1, 2, 3, 4, 5, 6, 7, 8, 9, 10

## FUSE_SMD
designator F?, comment Fuse 200mA
footprint FUSE_0805_2012 (Fuse, Body 2.0x1.2mm, EIA 0805, IPC Medium Density)
footprint FUSE_1206_3216 (Fuse SMD,  Body 3.2x1.6mm, EIA 1206, IPC Medium Density)
footprint FUSE_1812_4530 (Fuse SMD,  Body 4.5x3mm, EIA 1812, IPC Medium Density)
pins: 1, 2

## FUSE_THD
designator F?, comment Fuse 2A
footprint FUSE_SR-5-BK
pins: 1, 2

## Header_1.27mm_2P
designator H?, comment Header 1.27mm
footprint HEADER_B2B_1.27MM_2P_MALE
pins: 1, 2

## Header_1.27mm_3P
designator H?, comment Header 1.27mm
footprint HEADER_B2B_1.27MM_3P_MALE
pins: 1, 2, 3

## Header_1.27mm_6P
designator H?, comment Header 1.27mm
footprint HEADER_B2B_1.27MM_6P_MALE
pins: 1, 2, 3, 4, 5, 6

## Header_1.27mm_7P
designator H?, comment Header 1.27mm
footprint HEADER_B2B_1.27MM_7P_MALE
pins: 1, 2, 3, 4, 5, 6, 7

## Header_1.27mm_11P
designator H?, comment Header 1.27mm
pins: 1, 2, 3, 4, 5, 6, 7, 8, 9, 10, 11

## Header_1.27mm_12P
designator H?, comment Header 1.27mm
footprint HEADER_B2B_1.27MM_12P_MALE
pins: 1, 2, 3, 4, 5, 6, 7, 8, 9, 10, 11, 12

## Header_1.27mm_18P
designator H?, comment Header 1.27mm
footprint HEADER_B2B_1.27MM_18P_MALE
pins: 1, 2, 3, 4, 5, 6, 7, 8, 9, 10, 11, 12, 13, 14, 15, 16, 17, 18

## Header_Molex_1.25mm_2P
designator H?, comment Molex 1.25mm
Manufacturer 1: Molex, LLC; Manufacturer Part Number 1: 0532610271; Description 1: CONN HEADER 2POS 1.25MM R/A SMD; Connector Type: Header, Shrouded; Number of Positions: 2; Number of Positions Loaded: All; Pitch: 0.049" (1.25mm); Supplier 1: Digi-Key; RoHS: RoHS Compliant; Category: Connectors, Interconnects; Stock 1: 4325; Pricing 1: 1=0.93, 10=0.819, 25=0.7708, 50=0.7388, 100=0.7066, 250=0.6424, 500=0.57816 (USD); Packaging: Cut Tape (CT); Part Status: Active; Contact Type: Male Blade; Number of Rows: 1; Row Spacing: -; Contact Mating Length: -; Mounting Type: Surface Mount, Right Angle; Termination: Solder; Fastening Type: -; Features: Solder Retention; Contact Finish: Tin; Contact Finish Thickness: 39µin (1.00µm); Color: Natural; ComponentLink1URL: http://www.molex.com/pdm_docs/sd/532610271_sd.pdf; ComponentLink1Description: http://www.molex.com/pdm_docs/sd/532610271_sd.pdf; Supplier Part Number 1: WM7620CT-ND
footprint HEADER_MOLEX_53261_0271
pins: 1, 2

## Header_Molex_1.25mm_3P
designator H?, comment Molex 1.25mm
Manufacturer 1: Molex, LLC; Manufacturer Part Number 1: 0532610371; Description 1: CONN HEADER 3POS 1.25MM R/A SMD; Connector Type: Header, Shrouded; Number of Positions: 3; Number of Positions Loaded: All; Pitch: 0.049" (1.25mm); Supplier 1: Digi-Key; RoHS: RoHS Compliant; Category: Connectors, Interconnects; Stock 1: 20252; Pricing 1: 1=1.13, 10=0.995, 25=0.9368, 50=0.8976, 100=0.8586, 250=0.78056, 500=0.7025 (USD); Packaging: Cut Tape (CT); Part Status: Active; Contact Type: Male Blade; Number of Rows: 1; Row Spacing: -; Contact Mating Length: -; Mounting Type: Surface Mount, Right Angle; Termination: Solder; Fastening Type: -; Features: Solder Retention; Contact Finish: Tin; Contact Finish Thickness: 39µin (1.00µm); Color: Natural; ComponentLink1URL: http://www.molex.com/pdm_docs/sd/532610371_sd.pdf; ComponentLink1Description: http://www.molex.com/pdm_docs/sd/532610371_sd.pdf; Supplier Part Number 1: WM7621CT-ND
footprint HEADER_MOLEX_53261_0371
pins: 1, 2, 3

## Header_Molex_1.25mm_4P
designator H?, comment Molex 1.25mm
Manufacturer 1: Molex, LLC; Manufacturer Part Number 1: 0532610471; Description 1: CONN HEADER 4POS 1.25MM R/A SMD; Connector Type: Header, Shrouded; Number of Positions: 4; Number of Positions Loaded: All; Pitch: 0.049" (1.25mm); Supplier 1: Digi-Key; RoHS: RoHS Compliant; Category: Connectors, Interconnects; Stock 1: 4253; Pricing 1: 1=1.36, 10=1.198, 25=1.128, 50=1.0808, 100=1.0338, 250=0.93984, 500=0.84586 (USD); Packaging: Cut Tape (CT); Part Status: Active; Contact Type: Male Blade; Number of Rows: 1; Row Spacing: -; Contact Mating Length: -; Mounting Type: Surface Mount, Right Angle; Termination: Solder; Fastening Type: -; Features: Solder Retention; Contact Finish: Tin; Contact Finish Thickness: 39µin (1.00µm); Color: Natural; ComponentLink1URL: http://www.molex.com/pdm_docs/sd/532610471_sd.pdf; ComponentLink1Description: http://www.molex.com/pdm_docs/sd/532610471_sd.pdf; Supplier Part Number 1: WM7622CT-ND
footprint HEADER_MOLEX_53261_0471
pins: 1, 2, 3, 4

## Header_Molex_1.25mm_5P
designator H?, comment Molex 1.25mm
Manufacturer 1: Molex, LLC; Manufacturer Part Number 1: 0532610571; Description 1: CONN HEADER 5POS 1.25MM R/A SMD; Connector Type: Header, Shrouded; Number of Positions: 5; Number of Positions Loaded: All; Pitch: 0.049" (1.25mm); Supplier 1: Digi-Key; RoHS: RoHS Compliant; Category: Connectors, Interconnects; Stock 1: 11742; Pricing 1: 1=1.36, 10=1.2, 25=1.1292, 50=1.0824, 100=1.0353, 250=0.94116, 500=0.84704 (USD); Packaging: Cut Tape (CT); Part Status: Active; Contact Type: Male Blade; Number of Rows: 1; Row Spacing: -; Contact Mating Length: -; Mounting Type: Surface Mount, Right Angle; Termination: Solder; Fastening Type: -; Features: Solder Retention; Contact Finish: Tin; Contact Finish Thickness: 39µin (1.00µm); Color: Natural; ComponentLink1URL: http://www.molex.com/pdm_docs/sd/532610571_sd.pdf; ComponentLink1Description: http://www.molex.com/pdm_docs/sd/532610571_sd.pdf; Supplier Part Number 1: WM7623CT-ND
footprint HEADER_MOLEX_53261_0571
pins: 1, 2, 3, 4, 5

## IC_TIMER_555
designator U?, comment 555 Timer
footprint SOIC127P600X175-8AN (SOIC, 8-Leads, Body 4.9x3.9mm, Pitch 1.27mm, IPC Medium Density)
pins: 1 GND (power), 2 TRIG (in), 3 OUT (out), 4 ~{RES} (in), 5 CV, 6 THR (in), 7 DIS, 8 VCC (power)

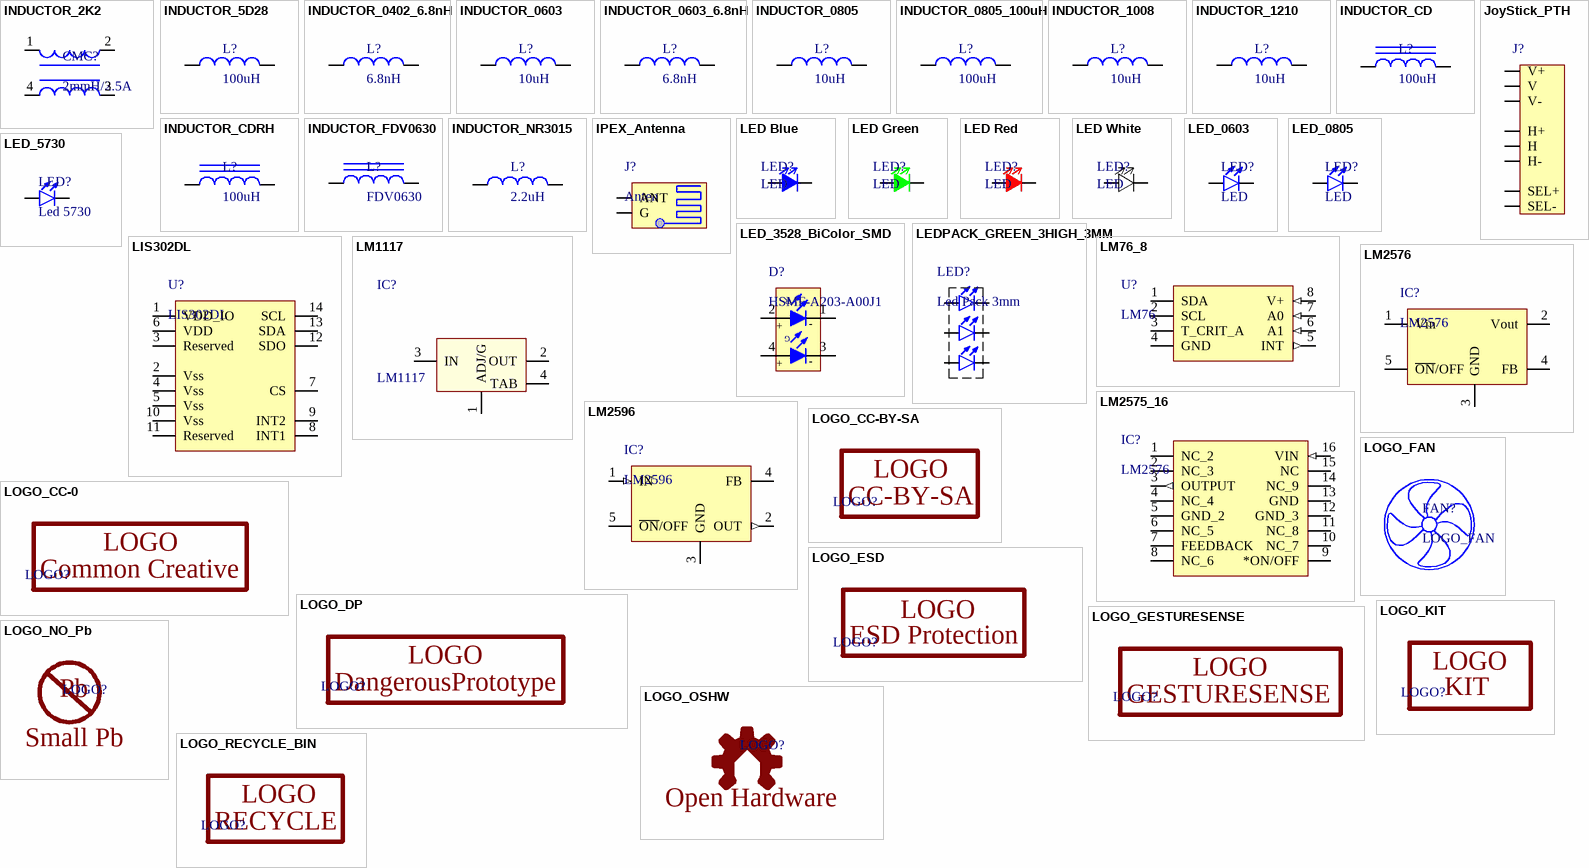
[diagram p2: symbols INDUCTOR_2K2 to LOGO_RECYCLE_BIN]

## INDUCTOR_2K2
designator CMC?, comment 2mmH/2.5A
Power Inductor
pins: 1, 2, 3, 4

## INDUCTOR_5D28
designator L?, comment 100uH
Inductor
footprint INDUC_5D28
pins: 1, 2

## INDUCTOR_0402_6.8nH
designator L?, comment 6.8nH
Manufacturer 1: TDK Corporation; Manufacturer Part Number 1: MLG0402Q6N8JT000; Description 1: FIXED IND 6.8NH 140MA 1.6 OHM; Type: Multilayer; Material - Core: Non-Magnetic; Tolerance: ±5%; Current Rating: 140mA; Shielding: Unshielded; DC Resistance (DCR): 1.6 Ohm Max; Q @ Freq: 2 @ 100MHz; Frequency - Self Resonant: 5.5GHz; Frequency - Test: 100MHz; Supplier 1: Digi-Key; RoHS: RoHS Compliant; Category: Inductors, Coils, Chokes; Stock 1: 15855; Pricing 1: 1=0.35, 10=0.315, 50=0.245, 100=0.2275, 500=0.1995, 1000=0.161 (USD); Packaging: Cut Tape (CT); Part Status: Discontinued; Inductance: 6.8nH; Current - Saturation: -; Ratings: -; Operating Temperature: -55°C ~ 125°C; Mounting Type: Surface Mount; Package / Case: 01005 (0402 Metric); Size / Dimension: 0.016" L x 0.008" W (0.40mm x 0.20mm); Height - Seated (Max): 0.009" (0.22mm); ComponentLink1URL: https://product.tdk.com/info/en/catalog/datasheets/inductor_commercial_high-frequency_mlg0402q_en.pdf; ComponentLink1Description: https://product.tdk.com/info/en/catalog/datasheets/inductor_commercial_high-frequency_mlg0402q_en.pdf; Supplier Part Number 1: 445-9472-1-ND
footprint INDUC_0402_1005
pins: 1, 2

## INDUCTOR_0603
designator L?, comment 10uH
footprint INDUC_0603_1608X95N (Chip bead, Body 1.6x0.8mm, 0603, IPC Medium Density)
pins: 1, 2

## INDUCTOR_0603_6.8nH
designator L?, comment 6.8nH
Manufacturer 1: Taiyo Yuden; Manufacturer Part Number 1: HK16086N8J-T; Description 1: FIXED IND 6.8NH 300MA 220 MOHM; Type: Multilayer; Material - Core: Ferrite; Tolerance: ±5%; Current Rating: 300mA; Shielding: Unshielded; DC Resistance (DCR): 220 mOhm Max; Q @ Freq: 10 @ 100MHz; Frequency - Self Resonant: 4GHz; Frequency - Test: 100MHz; Supplier 1: Digi-Key; RoHS: RoHS Compliant; Category: Inductors, Coils, Chokes; Stock 1: 94790; Pricing 1: 1=0.1, 10=0.082, 25=0.074, 50=0.064, 100=0.0574, 250=0.05332, 500=0.0492, 1000=0.04264 (USD); Packaging: Digi-Reel®; Part Status: Active; Inductance: 6.8nH; Current - Saturation: -; Ratings: -; Operating Temperature: -40°C ~ 85°C; Mounting Type: Surface Mount; Package / Case: 0603 (1608 Metric); Size / Dimension: 0.063" L x 0.031" W (1.60mm x 0.80mm); Height - Seated (Max): 0.037" (0.95mm); ComponentLink1URL: http://ds.yuden.co.jp/TYCOMPAS/ut/detail.do?productNo=HK16086N8J-T&fileName=HK16086N8J-T_SS&mode=specSheetDownload; ComponentLink1Description: http://ds.yuden.co.jp/TYCOMPAS/ut/detail.do?productNo=HK16086N8J-T&fileName=HK16086N8J-T_SS&mode=specSheetDownload; Supplier Part Number 1: 587-1543-6-ND
footprint INDUC_0603_1608X95N (Chip bead, Body 1.6x0.8mm, 0603, IPC Medium Density)
pins: 1, 2

## INDUCTOR_0805
designator L?, comment 10uH
footprint INDUC_0805_2012X95N (Inductor SMD 0805, 2mmx1.2mm)
pins: 1, 2

## INDUCTOR_0805_100uH
designator L?, comment 100uH
Manufacturer 1: Taiyo Yuden; Manufacturer Part Number 1: LBR2012T101K; Description 1: FIXED IND 100UH 50MA 4 OHM SMD; Type: Wirewound; Inductance: 100µH; Tolerance: ±10%; Current Rating: 50mA; Shielding: Unshielded; DC Resistance (DCR): 4 Ohm; Frequency - Self Resonant: 8MHz; Frequency - Test: 796kHz; Supplier 1: Digi-Key; RoHS: RoHS Compliant; Category: Inductors, Coils, Chokes; Stock 1: 20402; Pricing 1: 1=0.1, 10=0.095, 25=0.0856, 50=0.0742, 100=0.0665, 250=0.06176, 500=0.057, 1000=0.0494 (USD); Packaging: Cut Tape (CT); Part Status: Active; Material - Core: -; Current - Saturation: -; Q @ Freq: -; Ratings: -; Operating Temperature: -40°C ~ 105°C; Mounting Type: Surface Mount; Package / Case: 0805 (2012 Metric); Size / Dimension: 0.079" L x 0.049" W (2.00mm x 1.25mm); Height - Seated (Max): 0.057" (1.45mm); ComponentLink1URL: http://ds.yuden.co.jp/TYCOMPAS/ut/detail.do?productNo=LBR2012T101K&fileName=LBR2012T101K_SS&mode=specSheetDownload; ComponentLink1Description: http://ds.yuden.co.jp/TYCOMPAS/ut/detail.do?productNo=LBR2012T101K&fileName=LBR2012T101K_SS&mode=specSheetDownload; Supplier Part Number 1: 587-2048-1-ND
footprint INDUC_0805_2012X95N (Inductor SMD 0805, 2mmx1.2mm)
pins: 1, 2

## INDUCTOR_1008
designator L?, comment 10uH
footprint INDUC_1008_2520X220N (Inductor, molded body 2.5x2.0mm)
pins: 1, 2

## INDUCTOR_1210
designator L?, comment 10uH
footprint INDUC_1210_3225X135N (Inductor SMD 1206, 3.2mmx2.5mm)
pins: 1, 2

## INDUCTOR_CD
designator L?, comment 100uH
Inductor
footprint INDUC_CD43_4532
footprint INDUC_CD54_5848
footprint INDUC_CD105_1054
footprint INDUC_CD75_7850
pins: 1, 2

## INDUCTOR_CDRH
designator L?, comment 100uH
Inductor
footprint INDUC_CDRH127 (Inductor SMD 12x12 Hand Solder)
footprint INDUC_CDRH74 (Inductor SMD 7x7x4mm Hand Solder)
pins: 1, 2

## INDUCTOR_FDV0630
designator L?, comment FDV0630
footprint INDUC_FDV0630
pins: 1, 2

## INDUCTOR_NR3015
designator L?, comment 2.2uH
Ferrit Inductor; Manufacturer 1: Taiyo Yuden; Manufacturer Part Number 1: NR3015T2R2M; Description 1: FIXED IND 2.2UH 1.5A 72 MOHM SMD; Type: Wirewound; Material - Core: Ferrite; Inductance: 2.2µH; Tolerance: ±20%; Current Rating: 1.5A; Current - Saturation: 1.48A; Shielding: Shielded; DC Resistance (DCR): 72 mOhm Max; Frequency - Self Resonant: 64MHz; Frequency - Test: 100kHz; Supplier 1: Digi-Key; RoHS: RoHS Compliant; Category: Inductors, Coils, Chokes; Stock 1: 174583; Pricing 1: 1=0.34, 10=0.306, 25=0.272, 50=0.238, 100=0.221, 250=0.204, 500=0.1938, 1000=0.1564 (USD); Packaging: Cut Tape (CT); Part Status: Active; Q @ Freq: -; Ratings: -; Operating Temperature: -25°C ~ 120°C; Mounting Type: Surface Mount; Package / Case: Nonstandard; Size / Dimension: 0.118" L x 0.118" W (3.00mm x 3.00mm); Height - Seated (Max): 0.059" (1.50mm); ComponentLink1URL: http://ds.yuden.co.jp/TYCOMPAS/ut/detail.do?productNo=NR3015T2R2M&fileName=NR3015T2R2M_SS&mode=specSheetDownload; ComponentLink1Description: http://ds.yuden.co.jp/TYCOMPAS/ut/detail.do?productNo=NR3015T2R2M&fileName=NR3015T2R2M_SS&mode=specSheetDownload; Supplier Part Number 1: 587-1648-1-ND
footprint INDUC-NR3015
pins: 1, 2

## IPEX_Antenna
designator J?, comment Anten
IPEX Antenna; Manufacturer 1: Taoglas Limited; Manufacturer Part Number 1: RECE.20279.001E.01; Description 1: CONN UMC RCPT STR SMD; Connector Style: Ultra Miniature Coaxial, IPEX MHF1; Connector Type: Receptacle, Male Pin; Contact Termination: Solder; Impedance: 50 Ohm; Frequency - Max: 6GHz; Body Material: Brass; Body Finish: Gold; Dielectric Material: Liquid Crystal Polymer (LCP); Supplier 1: Digi-Key; RoHS: RoHS Compliant; Category: Connectors, Interconnects; Stock 1: 31562; Pricing 1: 1=1.62, 10=1.437, 25=1.298, 100=1.1356, 250=0.99652, 500=0.88066, 1000=0.69525 (USD); Packaging: Cut Tape (CT); Part Status: Active; Shield Termination: Solder; Mounting Type: Surface Mount; Cable Group: -; Fastening Type: Snap-On; Features: -; Housing Color: White; Ingress Protection: -; Center Contact Material: Brass; Center Contact Plating: Gold; Voltage Rating: -; Operating Temperature: -40°C ~ 90°C; ComponentLink1URL: http://www.taoglas.com/images/product_images/original_images/RECE.20279.001E-%20IPEX%20MHFI%20(U.FL)%20Receptacle.pdf; ComponentLink1Description: http://www.taoglas.com/images/product_images/original_images/RECE.20279.001E-%20IPEX%20MHFI%20(U.FL)%20Receptacle.pdf; Supplier Part Number 1: 931-1107-1-ND
footprint CONN_IPEX_Antenna
pins: 1 ANT, 2 G

## JoyStick_PTH
designator J?  (value not drawn)
footprint JOYSTICK_TH
pins: B1A SEL+, B2A SEL-, H1 H+, H2 H, H3 H-, V1 V+, V2 V, V3 V-

## LED Blue
designator LED?, comment LED
LED Blue
footprint LED Blue 3mm TH V
pins: A, K

## LED Green
designator LED?, comment LED
LED Green
footprint LED Green 3mm TH V
pins: A, K

## LED Red
designator LED?, comment LED
LED Red
footprint LED Red 3mm TH V
pins: A, K

## LED White
designator LED?, comment LED
LED White
footprint LED White 3mm TH V
pins: A, K

## LED_0603
designator LED?, comment LED
footprint LED-0603-AMBER
footprint LED-0603-BLUE
footprint LED-0603-GREEN
footprint LED-0603-RED
footprint LED-0603-WHITE
footprint LED-0603-YELLOW
pins: A, K

## LED_0805
designator LED?, comment LED
footprint LED-0805-BLUE (LED SMD, Body 2.0x1.2mm, EIA 0805, IPC Medium Density)
footprint LED-0805-GREEN (LED SMD, Body 2.0x1.2mm, EIA 0805, IPC Medium Density)
footprint LED-0805-ORANGE (LED SMD, Body 2.0x1.2mm, EIA 0805, IPC Medium Density)
footprint LED-0805-RED (LED SMD, Body 2.0x1.2mm, EIA 0805, IPC Medium Density)
footprint LED-0805-YELLOW (LED SMD, Body 2.0x1.2mm, EIA 0805, IPC Medium Density)
pins: A, K